# Altium schematic symbol library U_INA213.Schlib: 1 symbol
Pins are listed as number, name and electrical type; pins without a type are passive.

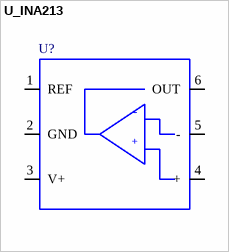
[diagram p0: symbol U_INA213]

## U_INA213
designator U?
pins: 1 REF, 2 GND, 3 V+, 4 +, 5 -, 6 OUT